# EAGLE library part MKE04Z8FK4 (library parts)
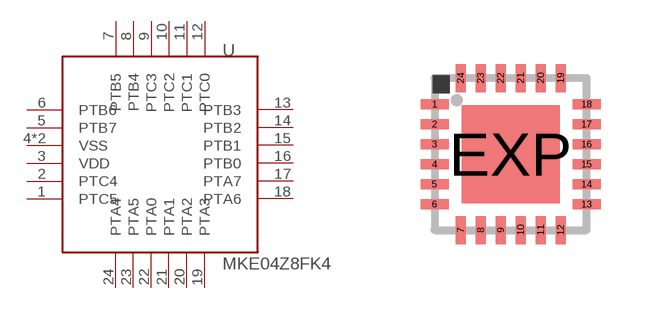
[diagram p7: symbol with the pads of QFN24-4X4; footprint QFN24-4X4]

Designator prefix -

## MKE04Z8FK4  [QFN24-4X4]
1  PTC5
2  PTC4
3  VDD
4  VSS
5  PTB7
6  PTB6
7  PTB5
8  PTB4
9  PTC3
10  PTC2
11  PTC1
12  PTC0
13  PTB3
14  PTB2
15  PTB1
16  PTB0
17  PTA7
18  PTA6
19  PTA3
20  PTA2
21  PTA1
22  PTA0
23  PTA5
24  PTA4
EXP  VSS

## Footprint QFN24-4X4 (pad centres in mm)
UF Package 24-Lead (4mm × 4mm) Plastic QFN Source: http://cds.linear.com/docs/Datasheet/5598f.pdf
smd 0.7 x 0.25: 1 -1.9,1.25; 2 -1.9,0.75; 3 -1.9,0.25; 4 -1.9,-0.25; 5 -1.9,-0.75; 6 -1.9,-1.25; 13 1.9,-1.25; 14 1.9,-0.75; 15 1.9,-0.25; 16 1.9,0.25; 17 1.9,0.75; 18 1.9,1.25
smd 0.25 x 0.7: 7 -1.25,-1.9; 8 -0.75,-1.9; 9 -0.25,-1.9; 10 0.25,-1.9; 11 0.75,-1.9; 12 1.25,-1.9; 19 1.25,1.9; 20 0.75,1.9; 21 0.25,1.9; 22 -0.25,1.9; 23 -0.75,1.9; 24 -1.25,1.9
smd 2.45 x 2.45: EXP 0,0